# EAGLE library part TCA9555 (library dadamachines)
TCA9555 Low-Voltage 16-Bit I 2C and SMBus I/O Expander with Interrupt Output and Configuration Registers Datasheet <http://www.ti.com/lit/ds/symlink/tca9555.pdf>
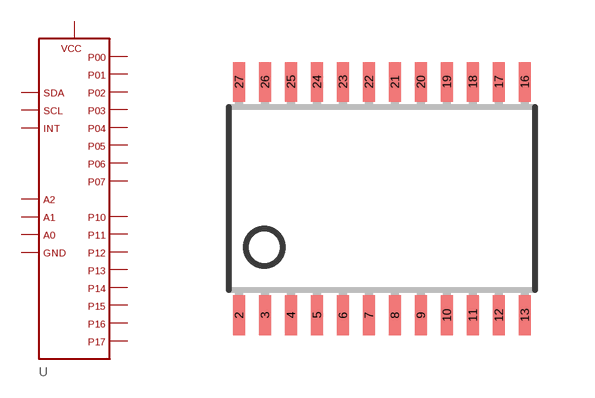
[diagram p5: symbol with the pads of TSSOP24; footprint TSSOP24]

Designator prefix -

## TCA9555  [TSSOP24]
2  INT  out
3  A1
4  A2
5  P00
6  P01
7  P02
8  P03
9  P04
10  P05
11  P06
12  P07
13  GND  pwr
16  P10
17  P11
18  P12
19  P13
20  P14
21  P15
22  P16
23  P17
24  A0
25  SCL
26  SDA
27  VDD  pwr

## Footprint TSSOP24 (pad centres in mm)
smd 0.305 x 0.991: 2 -3.702,-2.918; 3 -3.052,-2.918; 4 -2.402,-2.918; 5 -1.752,-2.918; 6 -1.102,-2.918; 7 -0.452,-2.918; 8 0.198,-2.918; 9 0.848,-2.918; 10 1.498,-2.918; 11 2.148,-2.918; 12 2.798,-2.918; 13 3.448,-2.918; 16 3.448,2.918; 17 2.798,2.918; 18 2.148,2.918; 19 1.498,2.918; 20 0.848,2.918; 21 0.198,2.918; 22 -0.452,2.918; 23 -1.102,2.918; 24 -1.752,2.918; 25 -2.402,2.918; 26 -3.052,2.918; 27 -3.702,2.918